# Altium footprint library Resistor.PcbLib: 1 footprints
Each footprint in its own frame and in the unit in brackets; x right, y up, seen from the top. Pads: shape width x height; smd on the part's side, far side on the other; paste and mask are expansions set on the pad; w line width, h text height; cw(c..) or ccw(c..) is an arc to the next point about the centre after c.
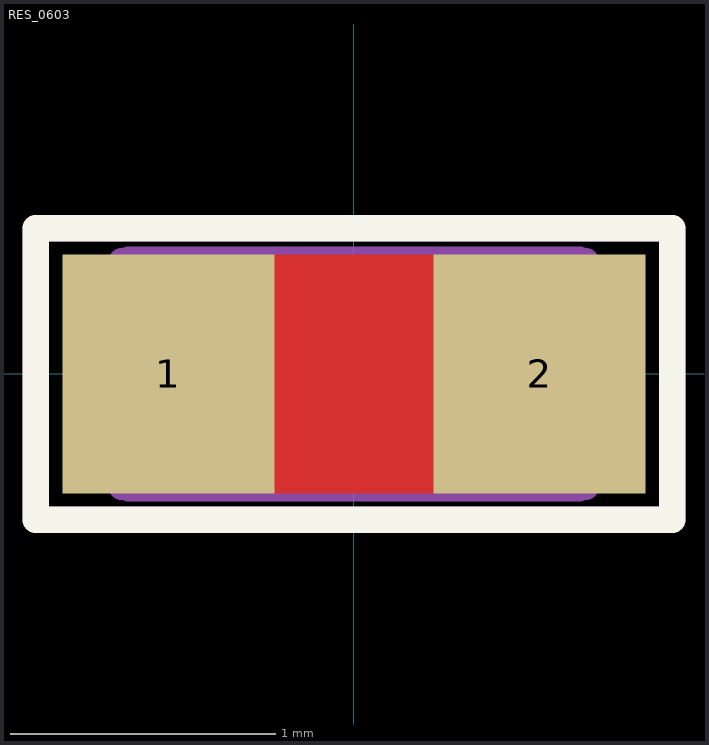
[diagram p0: the footprint, top view; thin cyan lines are the x and y axes]

## RES_0603 [mm] "Chip Resistor, 2-Leads, Body 1,6x0,8mm, IPC High Density"
height 0.5
pads (2):
  rect 0.8x0.9 smd: 1(-0.7,0) 2(0.7,0)
Top Layer:
  pour cut-out: -0.3,0.45 0.3,0.45 0.3,-0.45 -0.3,-0.45
Top Overlay:
  lines w0.1: -1.2,-0.55 -1.2,0.55 1.2,0.55 1.2,-0.55 -1.2,-0.55
Mechanical 2:
  lines w0.1: -0.876,-0.425 -0.876,0.425 -0.376,0.425 -0.376,-0.425 -0.876,-0.425 ; -0.85,-0.43 -0.85,0.43 0.85,0.43 0.85,-0.43 -0.85,-0.43 ; 0.374,-0.425 0.874,-0.425 0.874,0.425 0.374,0.425 0.374,-0.425
Mechanical 4:
  text ".Comment" at -1.654,-1.312 h1
  text ".Designator" at -1.925,0.7 h1
Mechanical 6:
  lines w0.1: -0.43,0 0.43,0 ; 0,-0.43 0,0.43 ; -1.2,-0.55 1.2,-0.55 1.2,0.55 -1.2,0.55 -1.2,-0.55
3D body: height 0.5, standoff 0.01, extent -0.85,-0.43 0.85,0.43
3D body: height 0.51, standoff 0, extent -0.875,-0.424 -0.376,0.424
3D body: height 0.51, standoff 0, extent 0.375,-0.424 0.874,0.424